# EAGLE library part FL2015-10L (library bodger)
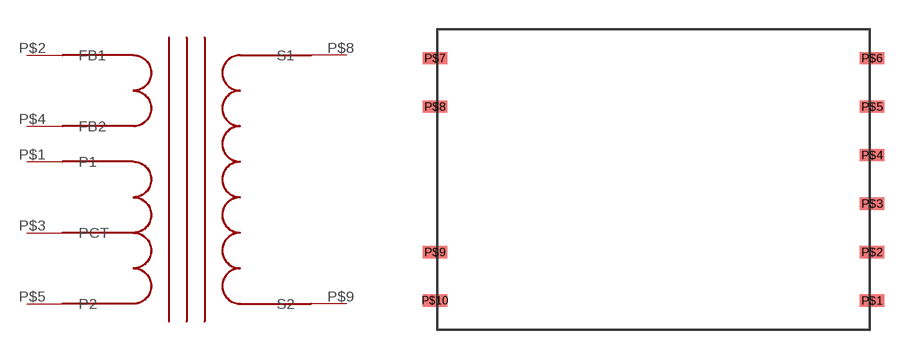
[diagram p55: symbol with the pads of COILCRAFT-CCFL-1; footprint COILCRAFT-CCFL-1]

Designator prefix -

## FL2015-10L  [COILCRAFT-CCFL-1]
P$1  P1  in
P$2  FB1  out
P$3  PCT  pwr
P$4  FB2  out
P$5  P2  in
P$8  S1  out
P$9  S2  out

## Footprint COILCRAFT-CCFL-1 (pad centres in mm)
smd 1.27 x 0.635: P$1 11.25,-6.25; P$2 11.25,-3.75; P$3 11.25,-1.25; P$4 11.25,1.25; P$5 11.25,3.75; P$6 11.25,6.25; P$7 -11.25,6.25; P$8 -11.25,3.75; P$9 -11.25,-3.75; P$10 -11.25,-6.25